# EAGLE library part EXBS8V (library resistor-array)
EXB Series (0805) - Panasonic 4 Resistors, 8 Terminations
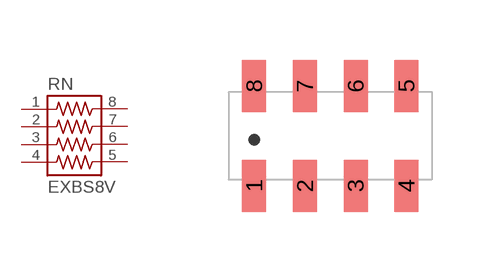
[diagram p16: symbol with the pads of EXBS8V; footprint EXBS8V]

Designator prefix RN

## EXBS8V  [EXBS8V]
1  1  pas
2  2  pas
3  3  pas
4  4  pas
5  5  pas
6  6  pas
7  7  pas
8  8  pas

## Footprint EXBS8V (pad centres in mm)
EXBS8V (0805) - Panasonic
smd 0.6 x 1.3: 1 -1.905,-1.25; 2 -0.635,-1.25; 3 0.635,-1.25; 4 1.905,-1.25; 5 1.905,1.25; 6 0.635,1.25; 7 -0.635,1.25; 8 -1.905,1.25